# Altium schematic symbol library NPN B1 C2 E3_1.Schlib: 1 symbol
Pins are listed as number, name and electrical type; pins without a type are passive.

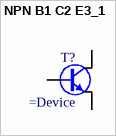
[diagram p0: symbol NPN B1 C2 E3_1]

## NPN B1 C2 E3_1
designator T?
NPN Transistor
pins: 1 B, 2 C, 3 E